# Altium footprint library TME_0505S.PcbLib: 1 footprints
Each footprint in its own frame and in the unit in brackets; x right, y up, seen from the top. Pads: shape width x height; smd on the part's side, far side on the other; paste and mask are expansions set on the pad; w line width, h text height; cw(c..) or ccw(c..) is an arc to the next point about the centre after c.
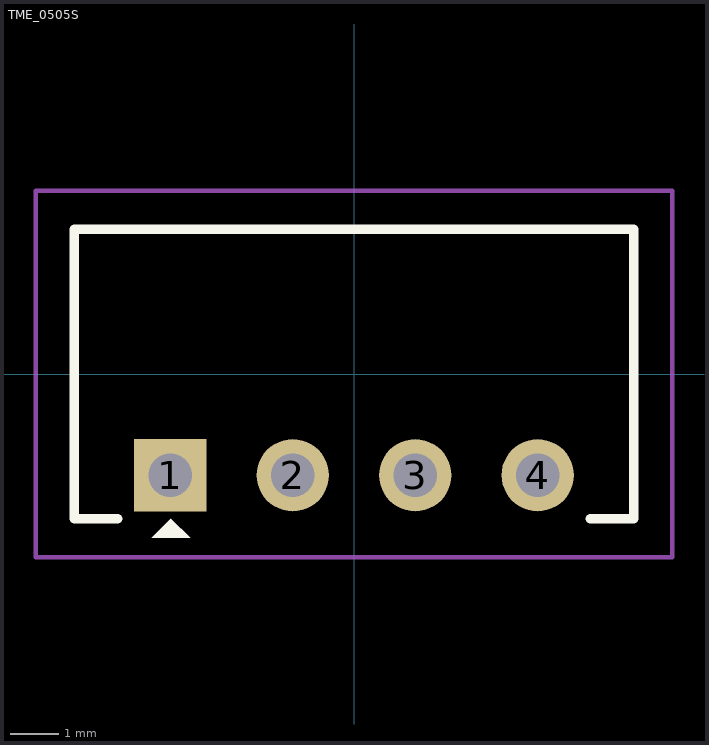
[diagram p0: the footprint, top view; thin cyan lines are the x and y axes]

## TME_0505S [mm]
height 10.41
pads (4):
  rect 1.5x1.5 hole 0.9: 1(-3.81,-2.1)
  round 1.5 hole 0.9: 2(-1.27,-2.1) 3(1.27,-2.1) 4(3.81,-2.1)
Top Overlay:
  region: -3.4,-3.4 -4.2,-3.4 -3.8,-3
  lines w0.2: -4.9,-3 -5.8,-3 -5.8,3 5.8,3 5.8,-3 4.9,-3
Top Courtyard:
  lines w0.1: -6.6,-3.8 -5.8,-3.8 6.6,-3.8 6.6,3.8 -6.6,3.8 -6.6,-3.8
3D body "step_temp.STEP": height 10.16, standoff -4.1, extent -5.8,-3 5.8,3